# EAGLE library part IDE-CON (library ML497A)
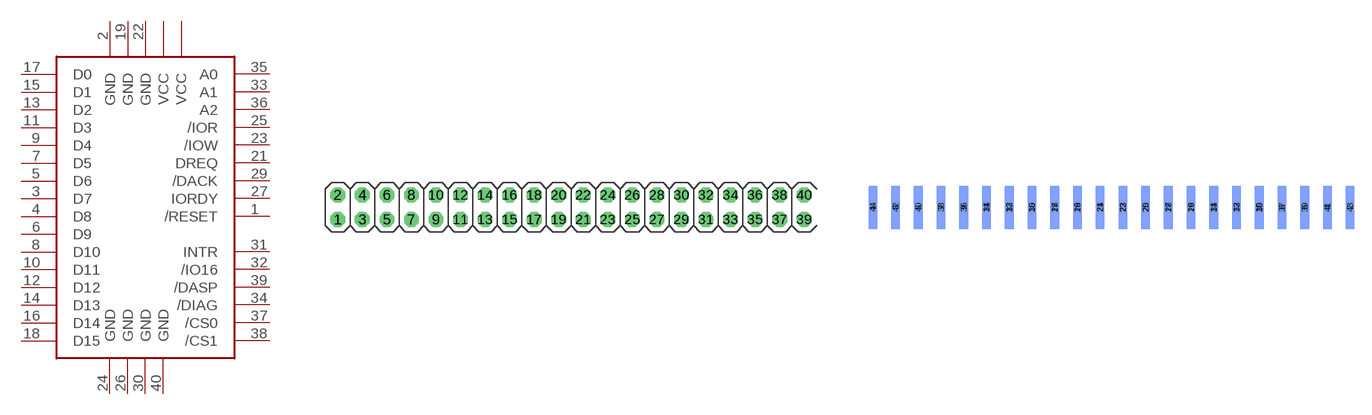
[diagram p1: symbol with the pads of IDE-CON; footprints IDE-CON, 2X22_EDGE_2.00]

Designator prefix -

## IDE-CON  [IDE-CON]
1  /RESET  in
2  GND  pwr
3  D7
4  D8
5  D6
6  D9
7  D5
8  D10
9  D4
10  D11
11  D3
12  D12
13  D2
14  D13
15  D1
16  D14
17  D0
18  D15
19  GND  pwr
21  DREQ  out
22  GND  pwr
23  /IOW  in
24  GND  pwr
25  /IOR  in
26  GND  pwr
27  IORDY
29  /DACK  in
30  GND  pwr
31  INTR  out
32  /IO16  in
33  A1  in
34  /DIAG  in
35  A0  in
36  A2  in
37  /CS0  in
38  /CS1  in
39  /DASP  in
40  GND  pwr

## IDE-CON2X22EDGE  [2X22_EDGE_2.00]
1  /RESET  in
2  GND  pwr
3  D7
4  D8
5  D6
6  D9
7  D5
8  D10
9  D4
10  D11
11  D3
12  D12
13  D2
14  D13
15  D1
16  D14
17  D0
18  D15
19  GND  pwr
21  DREQ  out
22  GND  pwr
23  /IOW  in
24  GND  pwr
25  /IOR  in
26  GND  pwr
27  IORDY
28  GND  pwr
29  /DACK  in
31  INTR  out
32  /IO16  in
33  A1  in
34  /DIAG  in
35  A0  in
36  A2  in
37  /CS0  in
38  /CS1  in
39  /DASP  in
40  GND  pwr
41  VCC  pwr
42  VCC  pwr

## Footprint IDE-CON (pad centres in mm)
drill 1.016 octagon: 1 -24.13,-1.27; 2 -24.13,1.27; 3 -21.59,-1.27; 4 -21.59,1.27; 5 -19.05,-1.27; 6 -19.05,1.27; 7 -16.51,-1.27; 8 -16.51,1.27; 9 -13.97,-1.27; 10 -13.97,1.27; 11 -11.43,-1.27; 12 -11.43,1.27; 13 -8.89,-1.27; 14 -8.89,1.27; 15 -6.35,-1.27; 16 -6.35,1.27; 17 -3.81,-1.27; 18 -3.81,1.27; 19 -1.27,-1.27; 20 -1.27,1.27; 21 1.27,-1.27; 22 1.27,1.27; 23 3.81,-1.27; 24 3.81,1.27; 25 6.35,-1.27; 26 6.35,1.27; 27 8.89,-1.27; 28 8.89,1.27; 29 11.43,-1.27; 30 11.43,1.27; 31 13.97,-1.27; 32 13.97,1.27; 33 16.51,-1.27; 34 16.51,1.27; 35 19.05,-1.27; 36 19.05,1.27; 37 21.59,-1.27; 38 21.59,1.27; 39 24.13,-1.27; 40 24.13,1.27

## Footprint 2X22_EDGE_2.00 (pad centres in mm)
smd 0.762 x 3.81: 1 -21,1; 3 -19,1; 5 -17,1; 7 -15,1; 9 -13,1; 11 -11,1; 13 -9,1; 15 -7,1; 17 -5,1; 19 -3,1; 21 -1,1; 23 1,1; 25 3,1; 27 5,1; 29 7,1; 31 9,1; 33 11,1; 35 13,1; 37 15,1; 39 17,1; 41 19,1; 43 21,1
smd 0.762 x 3.81 bottom: 2 21,1; 4 19,1; 6 17,1; 8 15,1; 10 13,1; 12 11,1; 14 9,1; 16 7,1; 18 5,1; 20 3,1; 22 1,1; 24 -1,1; 26 -3,1; 28 -5,1; 30 -7,1; 32 -9,1; 34 -11,1; 36 -13,1; 38 -15,1; 40 -17,1; 42 -19,1; 44 -21,1